# EAGLE library part EN3C12M26X (library molex)
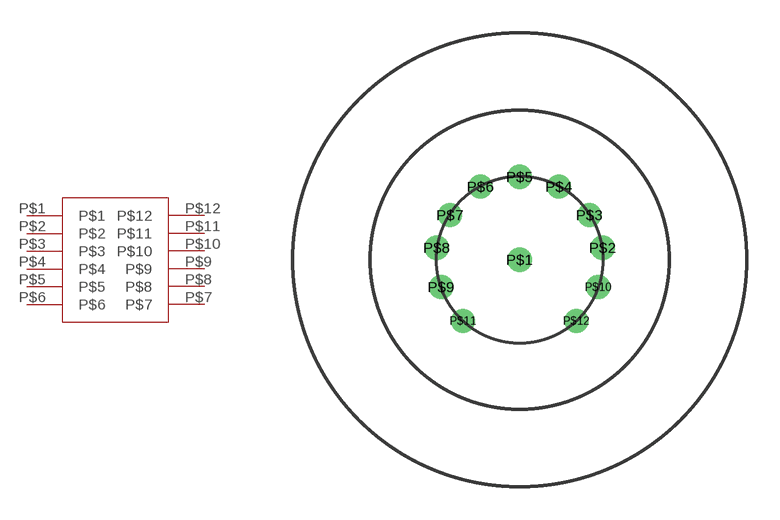
[diagram p95: symbol with the pads of EN3C12M26X; footprint EN3C12M26X]

Designator prefix -

## EN3C12M26X  [EN3C12M26X]
P$1  P$1
P$2  P$2
P$3  P$3
P$4  P$4
P$5  P$5
P$6  P$6
P$7  P$7
P$8  P$8
P$9  P$9
P$10  P$10
P$11  P$11
P$12  P$12

## Footprint EN3C12M26X (pad centres in mm)
drill 0.6: P$1 0,0; P$2 3.8,0.55; P$3 3.2,2.05; P$4 1.8,3.35; P$5 0,3.8; P$6 -1.8,3.35; P$7 -3.2,2.05; P$8 -3.8,0.55; P$9 -3.6,-1.25; P$10 3.6,-1.25; P$11 -2.6,-2.8; P$12 2.6,-2.8